# EAGLE library part 691335510006 (library Wurth_Connectors_WR-TBL Pluggable Connector)
WR-TBL Serie 3355 - 5.08 mm Double Level Modular Horizontal Male PCB Header KIND PROPERTIES Pitch 5.08 mm MATERIAL PROPERTIES Insulator Material PA66 Insulator Flammability Rating UL94 V-0 Contact Material Brass Contact Plating Tin GENERAL INFORMATION Operating Temperature -40 up to +105 °C Compliance RoHS ELECTRICAL PROPERTIES IR UL 10 A Working Voltage [UL] 300 V (AC) Withstanding Voltage [cULus] 1600 V (AC) Contact Resistance [cULus] 20 mΩ CERTIFICATION cULus Approval E315414 <https://www.we-online.com/catalog/media/o33287v209%20Family_WR-TBL_6913355100xx.jpg> Details see: https://www.we-online.com/catalog/en/TBL_5_08_3355_DOUBLE_LEVEL_HORIZONTAL_MALE_PCB_HEADER_6913355100XX/ Updated by Ella Wu 2019-12-26 2022(C) Wurth Elektronik
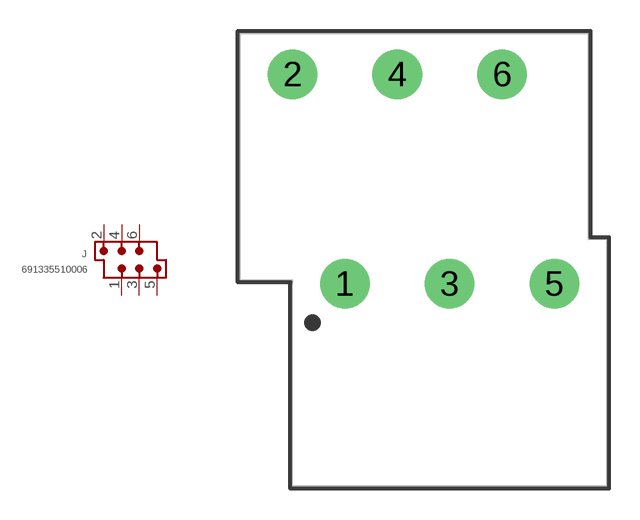
[diagram p342: symbol with the pads of 691335510006; footprint 691335510006]

Designator prefix J

## 691335510006 (DATASHEET-URL: https://www.we-online.com/redexpert/spec/691335510006?ae; IR-UL: 10A; MOUNT: THT; PART-NUMBER: 691335510006; PINS: 6; PITCH: 5.08mm; TYPE: Double Level Horizontal; VALUE: 691335510006; WORKING-VOLTAGE-UL: 300V (AC))  [691335510006]
1  1  pas
2  2  pas
3  3  pas
4  4  pas
5  5  pas
6  6  pas

## Footprint 691335510006 (pad centres in mm)
WR-TBL Serie 3355 - 5.08 mm Double Level Modular Horizontal Male PCB Header Max Height = 23.7mm , Pitch 5.08mm , 6pins
drill 1.6: 1 -5.08,0; 2 -7.62,10.16; 3 0,0; 4 -2.54,10.16; 5 5.08,0; 6 2.54,10.16